# Altium schematic symbol library MSS1P2L.SchLib: 1 symbol
Pins are listed as number, name and electrical type; pins without a type are passive.

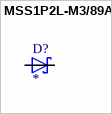
[diagram p0: symbol MSS1P2L-M3/89A]

## MSS1P2L-M3/89A
designator D?
MSS1P2L Series 20 V 1 A Surface Mount Schottky Barrier Rectifier - MicroSMP; MF: Vishay Semiconductor; MP: MSS1P2L-M3/89A; Value: *; Package: MicroSMP Vishay Semiconductor; Availability: Unavailable; SnapEDA_Link: https://www.snapeda.com/parts/MSS1P2L-M3/89A/Vishay%20Semiconductor%20Diodes%20Division/view-part/567602/?ref=snap; Price: None
footprint DIODE_MSS1P2L-M3/89A
pins: 1 C, 2 A